# Altium footprint library switches.PcbLib: 2 footprints
Each footprint in its own frame and in the unit in brackets; x right, y up, seen from the top. Pads: shape width x height; smd on the part's side, far side on the other; paste and mask are expansions set on the pad; w line width, h text height; cw(c..) or ccw(c..) is an arc to the next point about the centre after c.
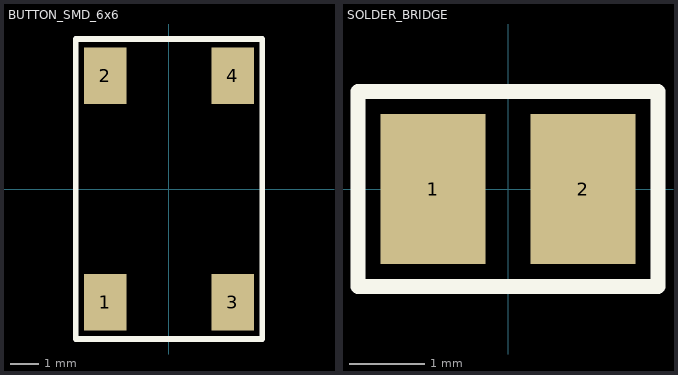
[diagram p0: the footprints below, top view; thin cyan lines are the x and y axes]

## BUTTON_SMD_6x6 [mm] "Simple quad button SMD 6x6mm"
height 5
pads (4):
  rect 1.5x2 smd mask+0: 1(-2.25,-4) 2(-2.25,4) 3(2.25,-4) 4(2.25,4)
Top Overlay:
  lines w0.2: -3.3,-5.3 -3.3,5.3 3.3,5.3 3.3,-5.3 -3.3,-5.3
3D body: height 1, standoff 0, extent -3,-3 3,3

## SOLDER_BRIDGE [mm] "Solder bridge"
pads (2):
  rect 1.4x2 smd paste-10: 1(-1,0) 2(1,0)
Top Overlay:
  lines w0.2: -2,-1.3 2,-1.3 2,1.3 -2,1.3 -2,-1.3
3D body: height 1, standoff 0, extent -0.8,-1 0.8,1